# Altium footprint library TI_DPU-PACKAGE_14-PIN-WSON.PcbLib: 1 footprints
Each footprint in its own frame and in the unit in brackets; x right, y up, seen from the top. Pads: shape width x height; smd on the part's side, far side on the other; paste and mask are expansions set on the pad; w line width, h text height; cw(c..) or ccw(c..) is an arc to the next point about the centre after c.
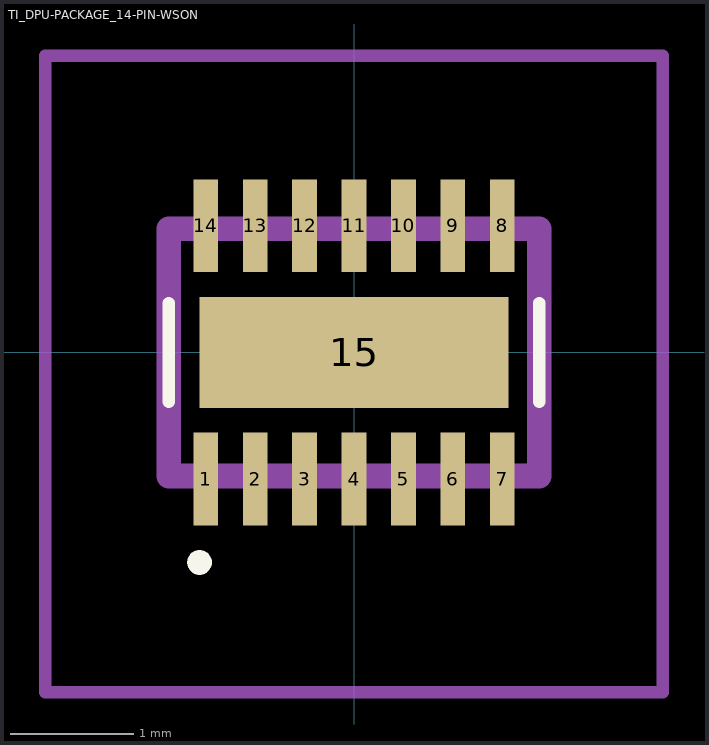
[diagram p0: the footprint, top view; thin cyan lines are the x and y axes]

## TI_DPU-PACKAGE_14-PIN-WSON [mm] "TPS22968"
pads (15):
  rect 0.2x0.75 smd: 1(-1.2,-1.025) 2(-0.8,-1.025) 3(-0.4,-1.025) 4(0,-1.025) 5(0.4,-1.025) 6(0.8,-1.025) 7(1.2,-1.025) 8(1.2,1.025) 9(0.8,1.025) 10(0.4,1.025) 11(0,1.025) 12(-0.4,1.025) 13(-0.8,1.025) 14(-1.2,1.025)
  rect 2.5x0.9 smd: 15(0,0)
Top Overlay:
  lines w0.1: -1.5,-0.4 -1.5,0.4 ; 1.5,-0.4 1.5,0.4 ; -1.3,-1.7 cw(c-1.25,-1.7) -1.2,-1.7 cw(c-1.25,-1.7) -1.3,-1.7
Mechanical 13:
  lines w0.2: -1.5,-1 -1.5,1 1.5,1 1.5,-1 -1.5,-1
Mechanical 15:
  lines w0.1: -2.5,-2.75 -2.5,2.4 2.5,2.4 2.5,-2.75 -2.5,-2.75
3D body "TPS22976NDPUR.stp": height 0.95, standoff 0, extent -1.5,-1 1.5,1